# Altium schematic symbol library RaspiGPIOconnector.SchLib: 1 symbol
Pins are listed as number, name and electrical type; pins without a type are passive.

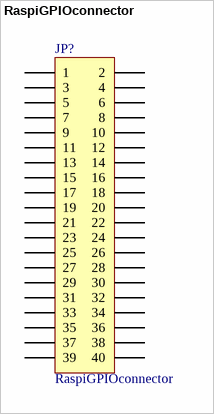
[diagram p0: symbol RaspiGPIOconnector]

## RaspiGPIOconnector
designator JP?
Header, 20-Pin, Dual row; PartNumber: PRT-14017; Manufacturer: SparkFun Electronics; PartDescription: RASPBERRY PI GPIO TALL HEADER; LatestRevisionDate: 17-Jul-2002; LatestRevisionNote: Re-released for DXP Platform.; Publisher: Altium Limited; Supplier 1: Digi-Key; Supplier Part Number 1: 1568-1462-ND; Package Type: 20 TH
signal-integrity model Connector
footprint RaspiGPIOConnector
pins: 1, 2, 3, 4, 5, 6, 7, 8, 9, 10, 11, 12, 13, 14, 15, 16, 17, 18, 19, 20, 21, 22, 23, 24, 25, 26, 27, 28, 29, 30, 31, 32, 33, 34, 35, 36, 37, 38, 39, 40